# Altium footprint library Flip-Flops.PcbLib: 4 footprints
Each footprint in its own frame and in the unit in brackets; x right, y up, seen from the top. Pads: shape width x height; smd on the part's side, far side on the other; paste and mask are expansions set on the pad; w line width, h text height; cw(c..) or ccw(c..) is an arc to the next point about the centre after c.
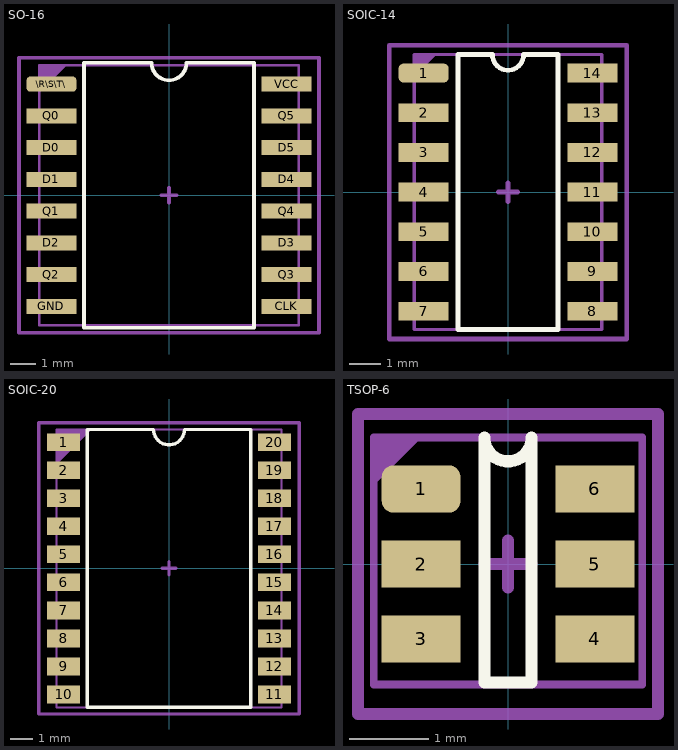
[diagram p0: the footprints below, top view; thin cyan lines are the x and y axes]

## SO-16 [mm]
pads (16):
  rrect50% 2x0.6 smd: \R\S\T\(-4.7,4.445)
  rect 2x0.6 smd: CLK(4.7,-4.445) D0(-4.7,1.905) D1(-4.7,0.635) D2(-4.7,-1.905) D3(4.7,-1.905) D4(4.7,0.635) D5(4.7,1.905) GND(-4.7,-4.445) Q0(-4.7,3.175) Q1(-4.7,-0.635) Q2(-4.7,-3.175) Q3(4.7,-3.175) Q4(4.7,-0.635) Q5(4.7,3.175) VCC(4.7,4.445)
Top Overlay:
  lines w0.153: -3.4,-5.3 3.4,-5.3 3.4,5.3 0.7,5.3 cw(c0,5.3) -0.7,5.3 -3.4,5.3 -3.4,-5.3
Top Assembly:
  region: -5.2,5.2 -5.2,4.1 -4.1,5.2
  lines w0.1: -5.2,-5.2 5.2,-5.2 5.2,5.2 -5.2,5.2 -5.2,-5.2
  text "'.Designator'" at -4.532,-0.333 h0.8
Top Courtyard:
  lines w0.153: -0.3,0 0.3,0 ; 0,-0.3 0,0.3 ; -6,-5.5 6,-5.5 6,5.5 -6,5.5 -6,-5.5
3D body "ds3231sn_.step": height 2.5, standoff 0, extent -5.15,-5.15 5.15,5.15

## SOIC-14 [mm]
pads (14):
  rrect50% 1.6x0.6 smd: 1(-2.7,3.81)
  rect 1.6x0.6 smd: 2(-2.7,2.54) 3(-2.7,1.27) 4(-2.7,0) 5(-2.7,-1.27) 6(-2.7,-2.54) 7(-2.7,-3.81) 8(2.7,-3.81) 9(2.7,-2.54) 10(2.7,-1.27) 11(2.7,0) 12(2.7,1.27) 13(2.7,2.54) 14(2.7,3.81)
Top Overlay:
  lines w0.153: -1.6,-4.4 -1.6,4.4 -0.5,4.4 ccw(c0,4.4) 0.5,4.4 1.6,4.4 1.6,-4.4 -1.6,-4.4
Top Assembly:
  region: -3,4.4 -2.3,4.4 -3,3.7
  lines w0.1: -3,-4.4 -3,4.4 3,4.4 3,-4.4 -3,-4.4
  text "'.Designator'" at -0.333,4.532 h0.8
Top Courtyard:
  lines w0.153: -0.3,0 0.3,0 ; 0,-0.3 0,0.3 ; -3.8,-4.7 -3.8,4.7 3.8,4.7 3.8,-4.7 -3.8,-4.7
3D body "soic14-1.step": height 1.7, standoff 0, extent -3,-4.4 3,4.4

## SOIC-20 [mm]
pads (20):
  rect 1.5x0.8 smd: 1(-4.775,5.715) 2(-4.775,4.445) 3(-4.775,3.175) 4(-4.775,1.905) 5(-4.775,0.635) 6(-4.775,-0.635) 7(-4.775,-1.905) 8(-4.775,-3.175) 9(-4.775,-4.445) 10(-4.775,-5.715) 11(4.775,-5.715) 12(4.775,-4.445) 13(4.775,-3.175) 14(4.775,-1.905) 15(4.775,-0.635) 16(4.775,0.635) 17(4.775,1.905) 18(4.775,3.175) 19(4.775,4.445) 20(4.775,5.715)
Top Overlay:
  lines w0.153: -3.7,-6.3 -3.7,6.3 -0.7,6.3 ccw(c0,6.3) 0.7,6.3 3.7,6.3 3.7,-6.3 -3.7,-6.3
Top Assembly:
  region: -5.1,6.3 -5.1,4.7 -3.5,6.3
  lines w0.1: -5.1,-6.3 -5.1,6.3 5.1,6.3 5.1,-6.3 -5.1,-6.3
  text "'.Designator'" at -4.532,-0.333 h0.8
Top Courtyard:
  lines w0.153: -0.3,0 0.3,0 ; 0,-0.3 0,0.3 ; -5.9,-6.6 -5.9,6.6 5.9,6.6 5.9,-6.6 -5.9,-6.6
3D body "User Library-SOIC20.step": height 2.2, standoff -0.04, extent -5.067,-6.3 5.067,6.3

## TSOP-6 [mm]
pads (6):
  rrect50% 1x0.6 smd: 1(-1.1,0.95)
  rect 1x0.6 smd: 2(-1.1,0) 3(-1.1,-0.95) 4(1.1,-0.95) 5(1.1,0) 6(1.1,0.95)
Top Overlay:
  lines w0.153: -0.3,-1.5 0.3,-1.5 0.3,1.6 cw(c0,1.6) -0.3,1.6 -0.3,-1.5
Top Assembly:
  region: -1.7,1.6 -1.7,1 -1.1,1.6
  lines w0.1: -1.7,-1.525 -1.7,1.6 1.7,1.6 1.7,-1.525 -1.7,-1.525
  text "'.Designator'" at -4.532,-0.333 h0.8
Top Courtyard:
  lines w0.153: -0.3,0 0,0 ; 0,-0.3 0,0 ; 0,0.3 0,0 ; 0.3,0 0,0 ; -1.9,-1.9 1.9,-1.9 1.9,1.9 -1.9,1.9 -1.9,-1.9
3D body "6-TSOP.step": height 1.1, standoff 0, extent -1.412,-1.55 1.412,1.55